# Altium footprint library DiodesTHD.PcbLib: 51 footprints (part 2 of 4)
Each footprint in its own frame and in the unit in brackets; x right, y up, seen from the top. Pads: shape width x height; smd on the part's side, far side on the other; paste and mask are expansions set on the pad; w line width, h text height; cw(c..) or ccw(c..) is an arc to the next point about the centre after c.
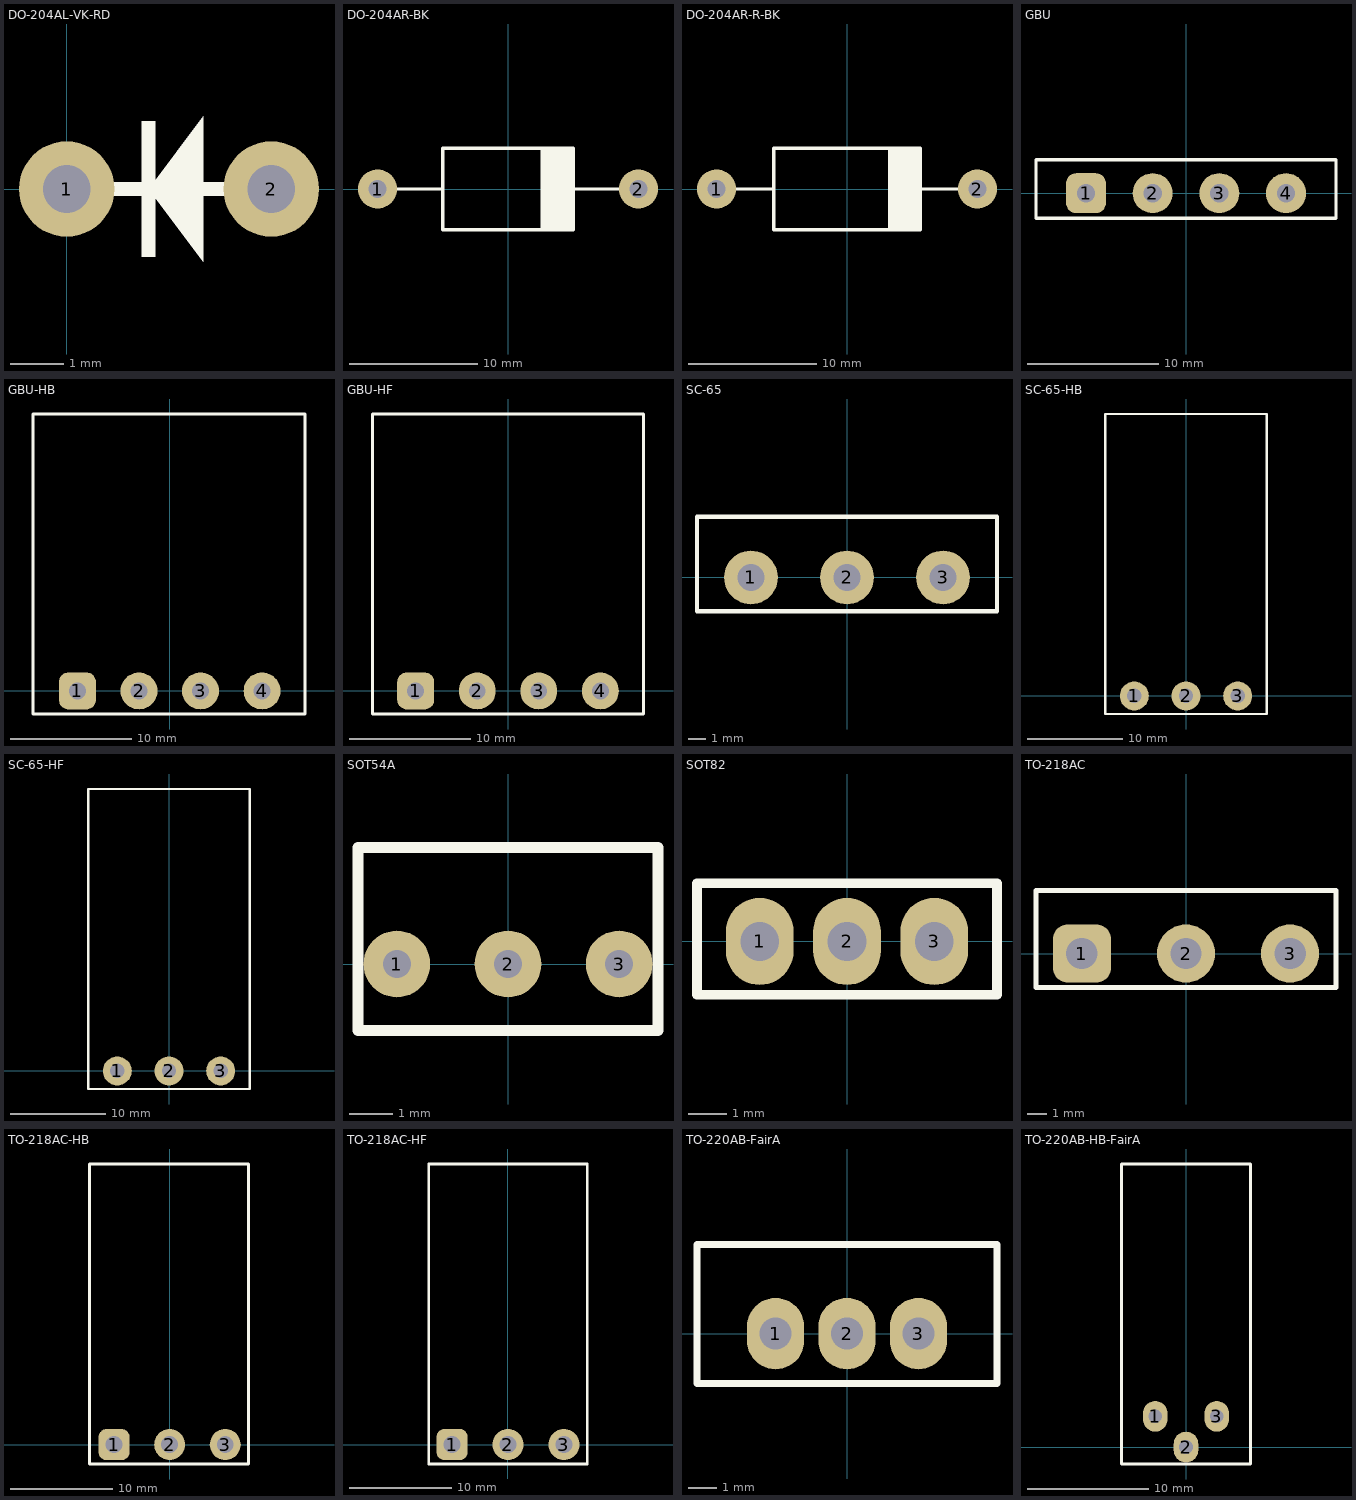
[diagram p1: the footprints below, top view; thin cyan lines are the x and y axes]

## DO-204AL-VK-RD [mil]
pads (2):
  round 70 hole 35: 1(0,0) 2(150,0)
Top Overlay:
  region: 65,50 55,50 55,-50 65,-50
  region: 100,-53.33 100,53.33 60,0
  lines w10: 35,0 60,0 ; 100,0 115,0
3D body "DO-204AL-VK-RD.stp": height 330.35, standoff -98.43, extent -52.73,-53.04 165.75,53.04

## DO-204AR-BK [mil]
pads (2):
  round 120 hole 55: 1(-400,0) 2(400,0)
Top Overlay:
  rectangle: 100,-125 200,125
  lines w10: -340,0 -200,0 ; 200,0 340,0 ; -200,-125 200,-125 200,125 -200,125 -200,-125
3D body "DO-204AR-BK.stp": height 253.94, standoff -98.43, extent -425.39,-124.92 425.59,124.93

## DO-204AR-R-BK [mil]
pads (2):
  round 120 hole 55: 1(-400,0) 2(400,0)
Top Overlay:
  rectangle: 125,-125 225,125
  lines w10: -345,0 -225,0 ; 225,0 345,0 ; -225,-125 225,-125 225,125 -225,125 -225,-125
3D body "DO-204AR-R-BK.stp": height 466.54, standoff -98.43, extent -425.59,-124.92 425.59,124.93

## GBU [mil]
pads (4):
  rrect50% 120x120 hole 55: 1(-300,0)
  round 120 hole 55: 2(-100,0) 3(100,0) 4(300,0)
Top Overlay:
  lines w10: -450,-75 450,-75 450,100 -450,100 -450,-75
3D body "GBU.stp": height 838.58, standoff -118.11, extent -438.98,-49.4 438.98,90.75

## GBU-HB [mil]
pads (4):
  rrect50% 120x120 hole 55: 1(-300,0)
  round 120 hole 55: 2(-100,0) 3(100,0) 4(300,0)
Top Overlay:
  lines w10: -445,-75 440,-75 440,900 -445,900 -445,-75
3D body "GBU-HB.stp": height 140.16, standoff -118.11, extent -438.98,-9.74 438.98,900

## GBU-HF [mil]
pads (4):
  rrect50% 120x120 hole 55: 1(-300,0)
  round 120 hole 55: 2(-100,0) 3(100,0) 4(300,0)
Top Overlay:
  lines w10: -440,-75 440,-75 440,900 -440,900 -440,-75
3D body "GBU-HF.stp": height 140.16, standoff -118.11, extent -438.98,-10.04 438.98,899.71

## SC-65 [mil]
pads (3):
  round 120 hole 60: 1(-214.57,0) 2(0,0) 3(214.57,0)
Top Overlay:
  lines w10: -335,-75 335,-75 335,135 -335,135 -335,-75
3D body "SC-65.stp": height 1063.31, standoff -314.65, extent -334.64,-74.8 334.65,133.87

## SC-65-HB [mil]
pads (3):
  round 120 hole 60: 1(-214.57,0) 2(0,0) 3(214.57,0)
Top Overlay:
  lines w10: -335,-75 335,-75 335,1170 -335,1170 -335,-75
3D body "SC-65-HB.stp": height 208.66, standoff -93.72, extent -334.64,-11.8 334.65,1169.3

## SC-65-HF [mil]
pads (3):
  round 120 hole 60: 1(-214.57,0) 2(0,0) 3(214.57,0)
Top Overlay:
  lines w10: -335,-75 335,-75 335,1170 -335,1170 -335,-75
3D body "SC-65-HF.stp": height 208.66, standoff -152.78, extent -334.64,-11.8 334.65,1169.3

## SOT54A [mil]
pads (3):
  round 60 hole 25: 1(-100,0) 2(0,0) 3(100,0)
Top Overlay:
  lines w10: -135,-60 135,-60 135,105 -135,105 -135,-60
3D body "SOT54A.stp": height 372.83, standoff -331.89, extent -109.45,-61.02 109.45,104.33

## SOT82 [mil]
pads (3):
  oval 70x90 hole 40: 1(-90.16,0) 2(0,0) 3(90.16,0)
Top Overlay:
  lines w10: -155,-55 155,-55 155,60 -155,60 -155,-55
3D body "SOT82.stp": height 537.01, standoff -502.36, extent -153.54,-51.57 153.55,58.67

## TO-218AC [mil]
pads (3):
  rrect50% 120x120 hole 65: 1(-215,0)
  round 120 hole 65: 2(0,0) 3(215,0)
Top Overlay:
  lines w10: -310,-70 310,-70 310,130 -310,130 -310,-70
3D body "TO-218AC.stp": height 980.31, standoff -415.35, extent -305.11,-57.08 305.12,124.02

## TO-218AC-HB [mil]
pads (3):
  rrect50% 120x120 hole 65: 1(-215,0)
  round 120 hole 65: 2(0,0) 3(215,0)
Top Overlay:
  lines w10: -310,-75 305,-75 305,1085 -310,1085 -310,-75
3D body "TO-218AC-HB.stp": height 181.1, standoff -212.62, extent -305.11,-13.77 305.12,1081.11

## TO-218AC-HF [mil]
pads (3):
  rrect50% 120x120 hole 65: 1(-215,0)
  round 120 hole 65: 2(0,0) 3(215,0)
Top Overlay:
  lines w10: -305,-75 305,-75 305,1080 -305,1080 -305,-75
3D body "TO-218AC-HF.stp": height 181.1, standoff -279.55, extent -305.11,-13.77 305.12,1081.11

## TO-220AB-FairA [mil]
pads (3):
  oval 80x100 hole 45: 1(-100,0) 2(0,0) 3(100,0)
Top Overlay:
  lines w10: -210,-70 210,-70 210,125 -210,125 -210,-70
3D body "TO-220AB-FairA.stp": height 817.72, standoff -312.2, extent -209.64,-66.92 209.65,122.06

## TO-220AB-HB-FairA [mil]
pads (3):
  oval 80x100 hole 45: 1(-100,100) 2(0,0) 3(100,100)
Top Overlay:
  lines w10: -210,-55 210,-55 210,920 -210,920 -210,-55
3D body "TO-220AB-HB-FairA.stp": height 188.98, standoff -208.68, extent -209.64,-11.8 209.65,918.12